# Altium integrated library ST Peripheral Fuzzy Logic.IntLib: 3 symbols
Pins are listed as number, name and electrical type; pins without a type are passive.

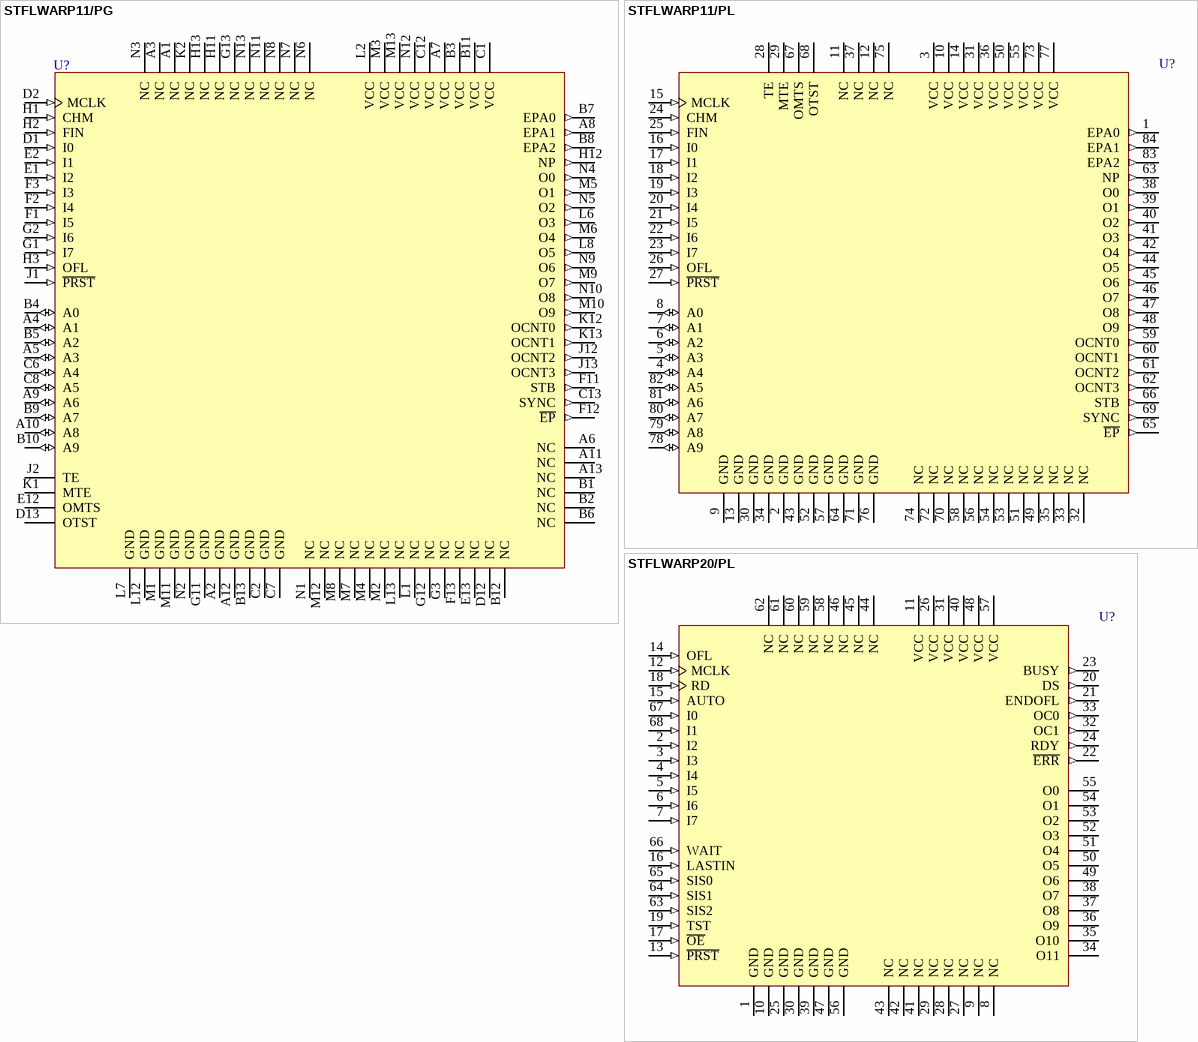
[diagram p0: symbols STFLWARP11/PG to STFLWARP20/PL]

## STFLWARP11/PG
designator U?
Weight Associative Rule Processor; Published: 24-Aug-2001; LatestRevisionDate: 17-Jul-2002; LatestRevisionNote: Re-released for DXP Platform.; DatasheetDocument: May-1996; PackageReference: CPGA100; Publisher: Altium Limited
footprint CPGA100 (PGA; 100 Leads; Body 33.5 x 33.5 mm; Plain Grid)
pins: A1 NC, A2 GND (power), A3 NC, A4 A1 (io), A5 A3 (io), A6 NC, A7 VCC (power), A8 EPA1 (out), A9 A6 (io), A10 A8 (io), A11 NC, A12 GND (power), A13 NC, B1 NC, B2 NC, B3 VCC (power), B4 A0 (io), B5 A2 (io), B6 NC, B7 EPA0 (out), B8 EPA2 (out), B9 A7 (io), B10 A9 (io), B11 VCC (power), B12 NC, B13 GND (power), C1 VCC (power), C2 GND (power), C6 A4 (io), C7 GND (power), C8 A5 (io), C12 VCC (power), C13 SYNC (out), D1 I0 (in), D2 MCLK (in), D12 NC, D13 OTST, E1 I2 (in), E2 I1 (in), E12 OMTS, E13 NC, F1 I5 (in), F2 I4 (in), F3 I3 (in), F11 STB (out), F12 ~{EP} (out), F13 NC, G1 I7 (in), G2 I6 (in), G3 NC, G11 GND (power), G12 NC, G13 NC, H1 CHM (in), H2 FIN (in), H3 OFL (in), H11 NC, H12 NP (out), H13 NC, J1 ~{PRST} (in), J2 TE, J12 OCNT2 (out), J13 OCNT3 (out), K1 MTE, K2 NC, K12 OCNT0 (out), K13 OCNT1 (out), L1 NC, L2 VCC (power), L6 O3 (out), L7 GND (power), L8 O5 (out), L12 GND (power), L13 NC, M1 GND (power), M2 NC, M3 VCC (power), M4 NC, M5 O1 (out), M6 O4 (out), M7 NC, M8 NC, M9 O7 (out), M10 O9 (out), M11 GND (power), M12 NC, M13 VCC (power), N1 NC, N2 GND (power), N3 NC, N4 O0 (out), N5 O2 (out), N6 NC, N7 NC, N8 NC, N9 O6 (out), N10 O8 (out), N11 NC, N12 VCC (power), N13 NC

## STFLWARP11/PL
designator U?
Weight Associative Rule Processor; Published: 24-Aug-2001; LatestRevisionDate: 17-Jul-2002; LatestRevisionNote: Re-released for DXP Platform.; DatasheetDocument: May-1996; PackageReference: PLCC84B; Publisher: Altium Limited
footprint PLCC84B (Leaded Chip Carrier; 84 Leads; Body 29.3 x 29.3 mm)
pins: 1 EPA0 (out), 2 GND (power), 3 VCC (power), 4 A4 (io), 5 A3 (io), 6 A2 (io), 7 A1 (io), 8 A0 (io), 9 GND (power), 10 VCC (power), 11 NC, 12 NC, 13 GND (power), 14 VCC (power), 15 MCLK (in), 16 I0 (in), 17 I1 (in), 18 I2 (in), 19 I3 (in), 20 I4 (in), 21 I5 (in), 22 I6 (in), 23 I7 (in), 24 CHM (in), 25 FIN (in), 26 OFL (in), 27 ~{PRST} (in), 28 TE, 29 MTE, 30 GND (power), 31 VCC (power), 32 NC, 33 NC, 34 GND (power), 35 NC, 36 VCC (power), 37 NC, 38 O0 (out), 39 O1 (out), 40 O2 (out), 41 O3 (out), 42 O4 (out), 43 GND (power), 44 O5 (out), 45 O6 (out), 46 O7 (out), 47 O8 (out), 48 O9 (out), 49 NC, 50 VCC (power), 51 NC, 52 GND (power), 53 NC, 54 NC, 55 VCC (power), 56 NC, 57 GND (power), 58 NC, 59 OCNT0 (out), 60 OCNT1 (out), 61 OCNT2 (out), 62 OCNT3 (out), 63 NP (out), 64 GND (power), 65 ~{EP} (out), 66 STB (out), 67 OMTS, 68 OTST, 69 SYNC (out), 70 NC, 71 GND (power), 72 NC, 73 VCC (power), 74 NC, 75 NC, 76 GND (power), 77 VCC (power), 78 A9 (io), 79 A8 (io), 80 A7 (io), 81 A6 (io), 82 A5 (io), 83 EPA2 (out), 84 EPA1 (out)

## STFLWARP20/PL
designator U?
8-Bit Fuzzy Co-Processor; Published: 24-Aug-2001; LatestRevisionDate: 17-Jul-2002; LatestRevisionNote: Re-released for DXP Platform.; DatasheetDocument: Mar-1996; PackageReference: PLCC68B; Publisher: Altium Limited
footprint PLCC68B (Leaded Chip Carrier; 68 Leads; Body 24.2 x 24.2 mm)
pins: 1 GND (power), 2 I2 (in), 3 I3 (in), 4 I4 (in), 5 I5 (in), 6 I6 (in), 7 I7 (in), 8 NC, 9 NC, 10 GND (power), 11 VCC (power), 12 MCLK (in), 13 ~{PRST} (in), 14 OFL (in), 15 AUTO (in), 16 LASTIN (in), 17 ~{OE} (in), 18 RD (in), 19 TST (in), 20 DS (out), 21 ENDOFL (out), 22 ~{ERR} (out), 23 BUSY (out), 24 RDY (out), 25 GND (power), 26 VCC (power), 27 NC, 28 NC, 29 NC, 30 GND (power), 31 VCC (power), 32 OC1 (out), 33 OC0 (out), 34 O11 (hiz), 35 O10 (hiz), 36 O9 (hiz), 37 O8 (hiz), 38 O7 (hiz), 39 GND (power), 40 VCC (power), 41 NC, 42 NC, 43 NC, 44 NC, 45 NC, 46 NC, 47 GND (power), 48 VCC (power), 49 O6 (hiz), 50 O5 (hiz), 51 O4 (hiz), 52 O3 (hiz), 53 O2 (hiz), 54 O1 (hiz), 55 O0 (hiz), 56 GND (power), 57 VCC (power), 58 NC, 59 NC, 60 NC, 61 NC, 62 NC, 63 SIS2 (in), 64 SIS1 (in), 65 SIS0 (in), 66 WAIT (in), 67 I0 (in), 68 I1 (in)